# EAGLE library part IRF7422 (library lbm)
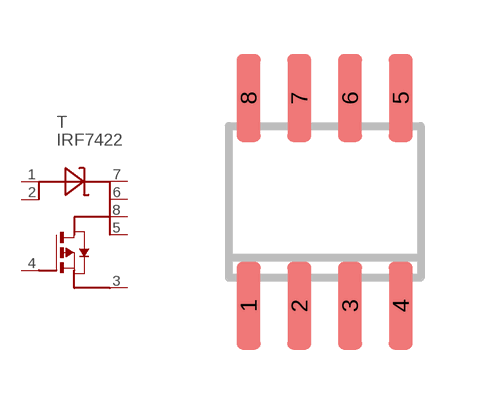
[diagram p10: symbol with the pads of SO8; footprint SO8]

Designator prefix T

## IRF7422  [SO8]
1  1  pas
2  2
3  3  pas
4  4  pas
5  5
6  7
7  8  pas
8  6  pas

## Footprint SO8 (pad centres in mm)
smd 0.6 x 2.2: 1 -1.905,-2.6; 2 -0.635,-2.6; 3 0.635,-2.6; 4 1.905,-2.6; 5 1.905,2.6; 6 0.635,2.6; 7 -0.635,2.6; 8 -1.905,2.6